# EAGLE library part RV8803 (library we-chip)
Micro Crystal RV-8803 RTC (Real Time Clock)
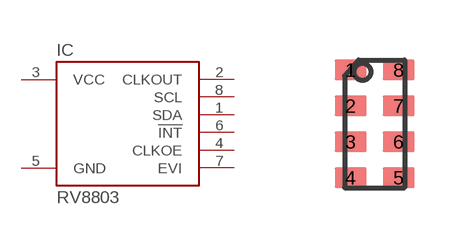
[diagram p19: symbol with the pads of RTC-C7; footprint RTC-C7]

Designator prefix IC

## RV8803  [RTC-C7]
1  SDA
2  CLKOUT  out
3  VCC  pwr
4  CLKOE  in
5  GND  pwr
6  !INT  oc
7  EVI  in
8  SCL  in

## Footprint RTC-C7 (pad centres in mm)
smd 0.8 x 0.5: 1 -0.6,1.35; 2 -0.6,0.45; 3 -0.6,-0.45; 4 -0.6,-1.35; 5 0.6,-1.35; 6 0.6,-0.45; 7 0.6,0.45; 8 0.6,1.35